# Altium schematic symbol library module.SchLib: 18 symbols
Pins are listed as number, name and electrical type; pins without a type are passive.

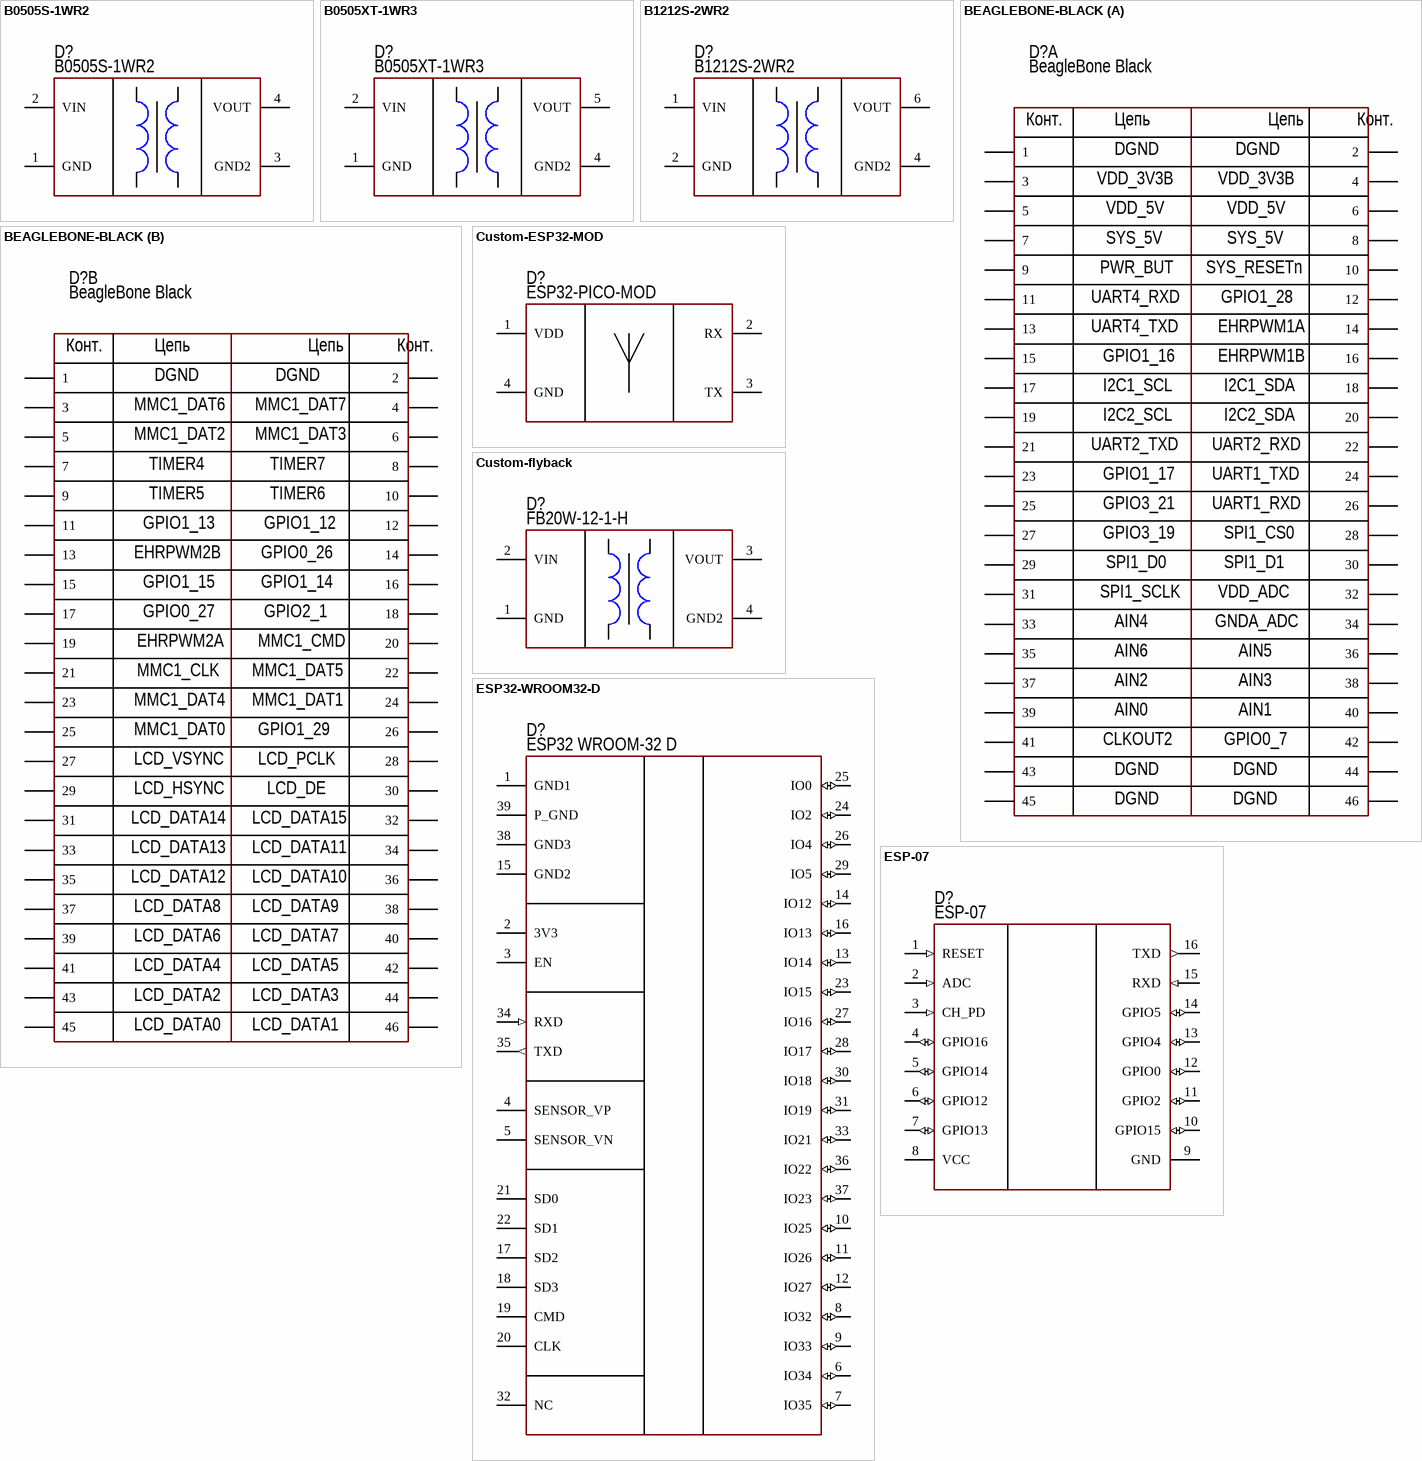
[diagram p0: symbols B0505S-1WR2 to ESP-07]

## B0505S-1WR2
designator D?  PartNumber: B0505S-1WR2
DC/DC converter; Manufacturer: Mornsun; ValueManufacturerPartNumber: DC/DC converter, isolator, 5V 200mA, -40...+105°C, SIP-4; OutputType: isolator; OutputVoltage: 5V 200mA; HelpURL: https://www.chipdip.ru/product/b0505s-1wr2; Package: SIP-4; ComponentType: DC/DC converter; Temperature: -40...+105°C
footprint MOD: SIP-4 (B0505S-1W)
pins: 1 GND (power), 2 VIN (power), 3 GND2 (power), 4 VOUT (power)

## B0505XT-1WR3
designator D?  PartNumber: B0505XT-1WR3
DC/DC converter; Manufacturer: Mornsun; ValueManufacturerPartNumber: DC/DC converter, isolator, 5V 200mA, -40...+105°C, SMD-8; OutputType: isolator; OutputVoltage: 5V 200mA; HelpURL: https://www.mornsun-power.com/html/products/35/0.25-3w-smd.html; Package: SMD-8; ComponentType: DC/DC converter; Temperature: -40...+105°C
footprint MOD: B0505XT-1WR3
pins: 1 GND (power), 2 VIN (power), 4 GND2 (power), 5 VOUT (power)

## B1212S-2WR2
designator D?  PartNumber: B1212S-2WR2
DC/DC converter; Manufacturer: Mornsun; ValueManufacturerPartNumber: DC/DC converter, isolator, 12V 167mA, -40...+105°C, SIP-7; OutputType: isolator; OutputVoltage: 12V 167mA; HelpURL: https://www.compel.ru/infosheet/MORNSUN/B1212S-2WR2; Package: SIP-7; ComponentType: DC/DC converter; Temperature: -40...+105°C
footprint MOD: SIP-7 (B1212S-2W)
pins: 1 VIN (power), 2 GND (power), 4 GND2 (power), 6 VOUT (power)

## BEAGLEBONE-BLACK
designator D?  PartNumber: BeagleBone Black
Single Board Computers; Manufacturer: BeagleBoard; ValueManufacturerPartNumber: Single Board Computers, ARM® Cortex®-A8, SD card, UART, USB, CAN, ADC, PWM, I2C, SPI, GPIO, eCAP, eQEP, -40...+90°C; Core: ARM® Cortex®-A8; TypeInterface: SD card, UART, USB, CAN, ADC, PWM, I2C, SPI, GPIO, eCAP, eQEP; HelpURL: https://www.digikey.com/en/products/detail/beagleboard-by-seeed-studio/102110420/12719590; ComponentType: Single Board Computers; Temperature: -40...+90°C
footprint BEAGLEBONE-BLACK-DIRECT-LP
footprint BEAGLEBONE-BLACK-INVERTED-LP
footprint BEAGLEBONE-BLACK-INVERTED-10mm
part A pins: 1-1 1, 1-2 2, 1-3 3, 1-4 4, 1-5 5, 1-6 6, 1-7 7, 1-8 8, 1-9 9, 1-10 10, 1-11 11, 1-12 12, 1-13 13, 1-14 14, 1-15 15, 1-16 16, 1-17 17, 1-18 18, 1-19 19, 1-20 20, 1-21 21, 1-22 22, 1-23 23, 1-24 24, 1-25 25, 1-26 26, 1-27 27, 1-28 28, 1-29 29, 1-30 30, 1-31 31, 1-32 32, 1-33 33, 1-34 34, 1-35 35, 1-36 36, 1-37 37, 1-38 38, 1-39 39, 1-40 40, 1-41 41, 1-42 42, 1-43 43, 1-44 44, 1-45 45, 1-46 46
part B pins: 2-1 1, 2-2 2, 2-3 3, 2-4 4, 2-5 5, 2-6 6, 2-7 7, 2-8 8, 2-9 9, 2-10 10, 2-11 11, 2-12 12, 2-13 13, 2-14 14, 2-15 15, 2-16 16, 2-17 17, 2-18 18, 2-19 19, 2-20 20, 2-21 21, 2-22 22, 2-23 23, 2-24 24, 2-25 25, 2-26 26, 2-27 27, 2-28 28, 2-29 29, 2-30 30, 2-31 31, 2-32 32, 2-33 33, 2-34 34, 2-35 35, 2-36 36, 2-37 37, 2-38 38, 2-39 39, 2-40 40, 2-41 41, 2-42 42, 2-43 43, 2-44 44, 2-45 45, 2-46 46
part A text: Конт.; Цепь; DGND; VDD_3V3B; VDD_5V; SYS_5V; PWR_BUT; SYS_RESETn; UART4_RXD; GPIO1_28; UART4_TXD; EHRPWM1A; GPIO1_16; EHRPWM1B; I2C1_SCL; I2C1_SDA; I2C2_SCL; I2C2_SDA; UART2_TXD; UART2_RXD; GPIO1_17; UART1_TXD; GPIO3_21; UART1_RXD; GPIO3_19; SPI1_CS0; SPI1_D0; SPI1_D1; SPI1_SCLK; VDD_ADC; AIN4; GNDA_ADC; AIN6; AIN5; AIN2; AIN3; AIN0; AIN1; CLKOUT2; GPIO0_7
part B text: Конт.; Цепь; DGND; MMC1_DAT6; MMC1_DAT7; MMC1_DAT2; MMC1_DAT3; TIMER4; TIMER7; TIMER5; TIMER6; GPIO1_13; GPIO1_12; EHRPWM2B; GPIO0_26; GPIO1_15; GPIO1_14; GPIO0_27; GPIO2_1; EHRPWM2A; MMC1_CMD; MMC1_CLK; MMC1_DAT5; MMC1_DAT4; MMC1_DAT1; MMC1_DAT0; GPIO1_29; LCD_VSYNC; LCD_PCLK; LCD_HSYNC; LCD_DE; LCD_DATA14; LCD_DATA15; LCD_DATA13; LCD_DATA11; LCD_DATA12; LCD_DATA10; LCD_DATA8; LCD_DATA9; LCD_DATA6; LCD_DATA7; LCD_DATA4; LCD_DATA5; LCD_DATA2; LCD_DATA3; LCD_DATA0; LCD_DATA1

## Custom-ESP32-MOD
designator D?  PartNumber: ESP32-PICO-MOD
Wi-Fi module; Manufacturer: Custom; ValueManufacturerPartNumber: Wi-Fi module, 2.4GHz, UART, -40...+105°C, SIP-4; Frequency: 2.4GHz; Interface: UART; HelpURL: https://www.chipdip.ru/product/b0505s-1wr2; Package: SIP-4; ComponentType: Wi-Fi module; Temperature: -40...+105°C
footprint CUSTOM: ESP32-PICO-MOD
pins: 1 VDD (power), 2 RX (power), 3 TX (power), 4 GND (power)

## Custom-flyback
designator D?  PartNumber: FB20W-12-1-H
DC/DC HV flyback; Manufacturer: Custom; ValueManufacturerPartNumber: DC/DC converter, isolator, 12V 1A, -40...+105°C, Custom; OutputType: isolator; OutputVoltage: 12V 1A; HelpURL: https://www.chipdip.ru/product/b0505s-1wr2; Package: Custom; ComponentType: DC/DC converter; Temperature: -40...+105°C
footprint CUSTOM: FB20W-12-1-H
pins: 1 GND (power), 2 VIN (power), 3 VOUT (power), 4 GND2 (power)

## ESP32-WROOM32-D
designator D?  PartNumber: ESP32 WROOM-32 D
Wi-Fi; Manufacturer: Espressif Systems; ValueManufacturerPartNumber: Wi-Fi module, WiFi 802.11 b/g/n (802.11n up to 150 Mbps) / Bluetooth v4.2 BR/EDR and BLE specification, 32 bit, SD card, UART, SPI, SDIO, I2C, LED PWM, Motor PWM, I2S, IR, pulse counter, GPIO, capacitive touch sensor, ADC, DAC, -40...+85°C, 18x25.5x3.1; Core: 32 bit; TypeInterface: SD card, UART, SPI, SDIO, I2C, LED PWM, Motor PWM, I2S, IR, pulse counter, GPIO, capacitive touch sensor, ADC, DAC; TypeStandart: WiFi 802.11 b/g/n (802.11n up to 150 Mbps) / Bluetooth v4.2 BR/EDR and BLE specification; HelpURL: https://www.espressif.com/sites/default/files/documentation/esp32-wroom-32d_esp32-wroom-32u_datasheet_en.pdf; Package: 18x25.5x3.1; ComponentType: Wi-Fi module; Temperature: -40...+85°C
footprint MOD: ESP32-WROOM32-D
pins: 1 GND1 (power), 2 3V3 (power), 3 EN, 4 SENSOR_VP, 5 SENSOR_VN, 6 IO34 (io), 7 IO35 (io), 8 IO32 (io), 9 IO33 (io), 10 IO25 (io), 11 IO26 (io), 12 IO27 (io), 13 IO14 (io), 14 IO12 (io), 15 GND2 (power), 16 IO13 (io), 17 SD2, 18 SD3, 19 CMD, 20 CLK, 21 SD0, 22 SD1, 23 IO15 (io), 24 IO2 (io), 25 IO0 (io), 26 IO4 (io), 27 IO16 (io), 28 IO17 (io), 29 IO5 (io), 30 IO18 (io), 31 IO19 (io), 32 NC, 33 IO21 (io), 34 RXD (in), 35 TXD (out), 36 IO22 (io), 37 IO23 (io), 38 GND3 (power), 39 P_GND (power)

## ESP-07
designator D?  PartNumber: ESP-07
Wi-Fi; Manufacturer: Espressif Systems; ValueManufacturerPartNumber: Wi-Fi module, 802.11 b/g/n, 8 bit, SDIO/SPI/UART, -40...+85°C, 21x16mm; Core: 8 bit; TypeInterface: SDIO/SPI/UART; TypeStandart: 802.11 b/g/n; HelpURL: https://www.chipdip.ru/product/esp-07; Package: 21x16mm; ComponentType: Wi-Fi module; Temperature: -40...+85°C
footprint MOD: ESP-07
pins: 1 RESET (in), 2 ADC (in), 3 CH_PD (in), 4 GPIO16 (io), 5 GPIO14 (io), 6 GPIO12 (io), 7 GPIO13 (io), 8 VCC (power), 9 GND (power), 10 GPIO15 (io), 11 GPIO2 (io), 12 GPIO0 (io), 13 GPIO4 (io), 14 GPIO5 (io), 15 RXD (in), 16 TXD (out)

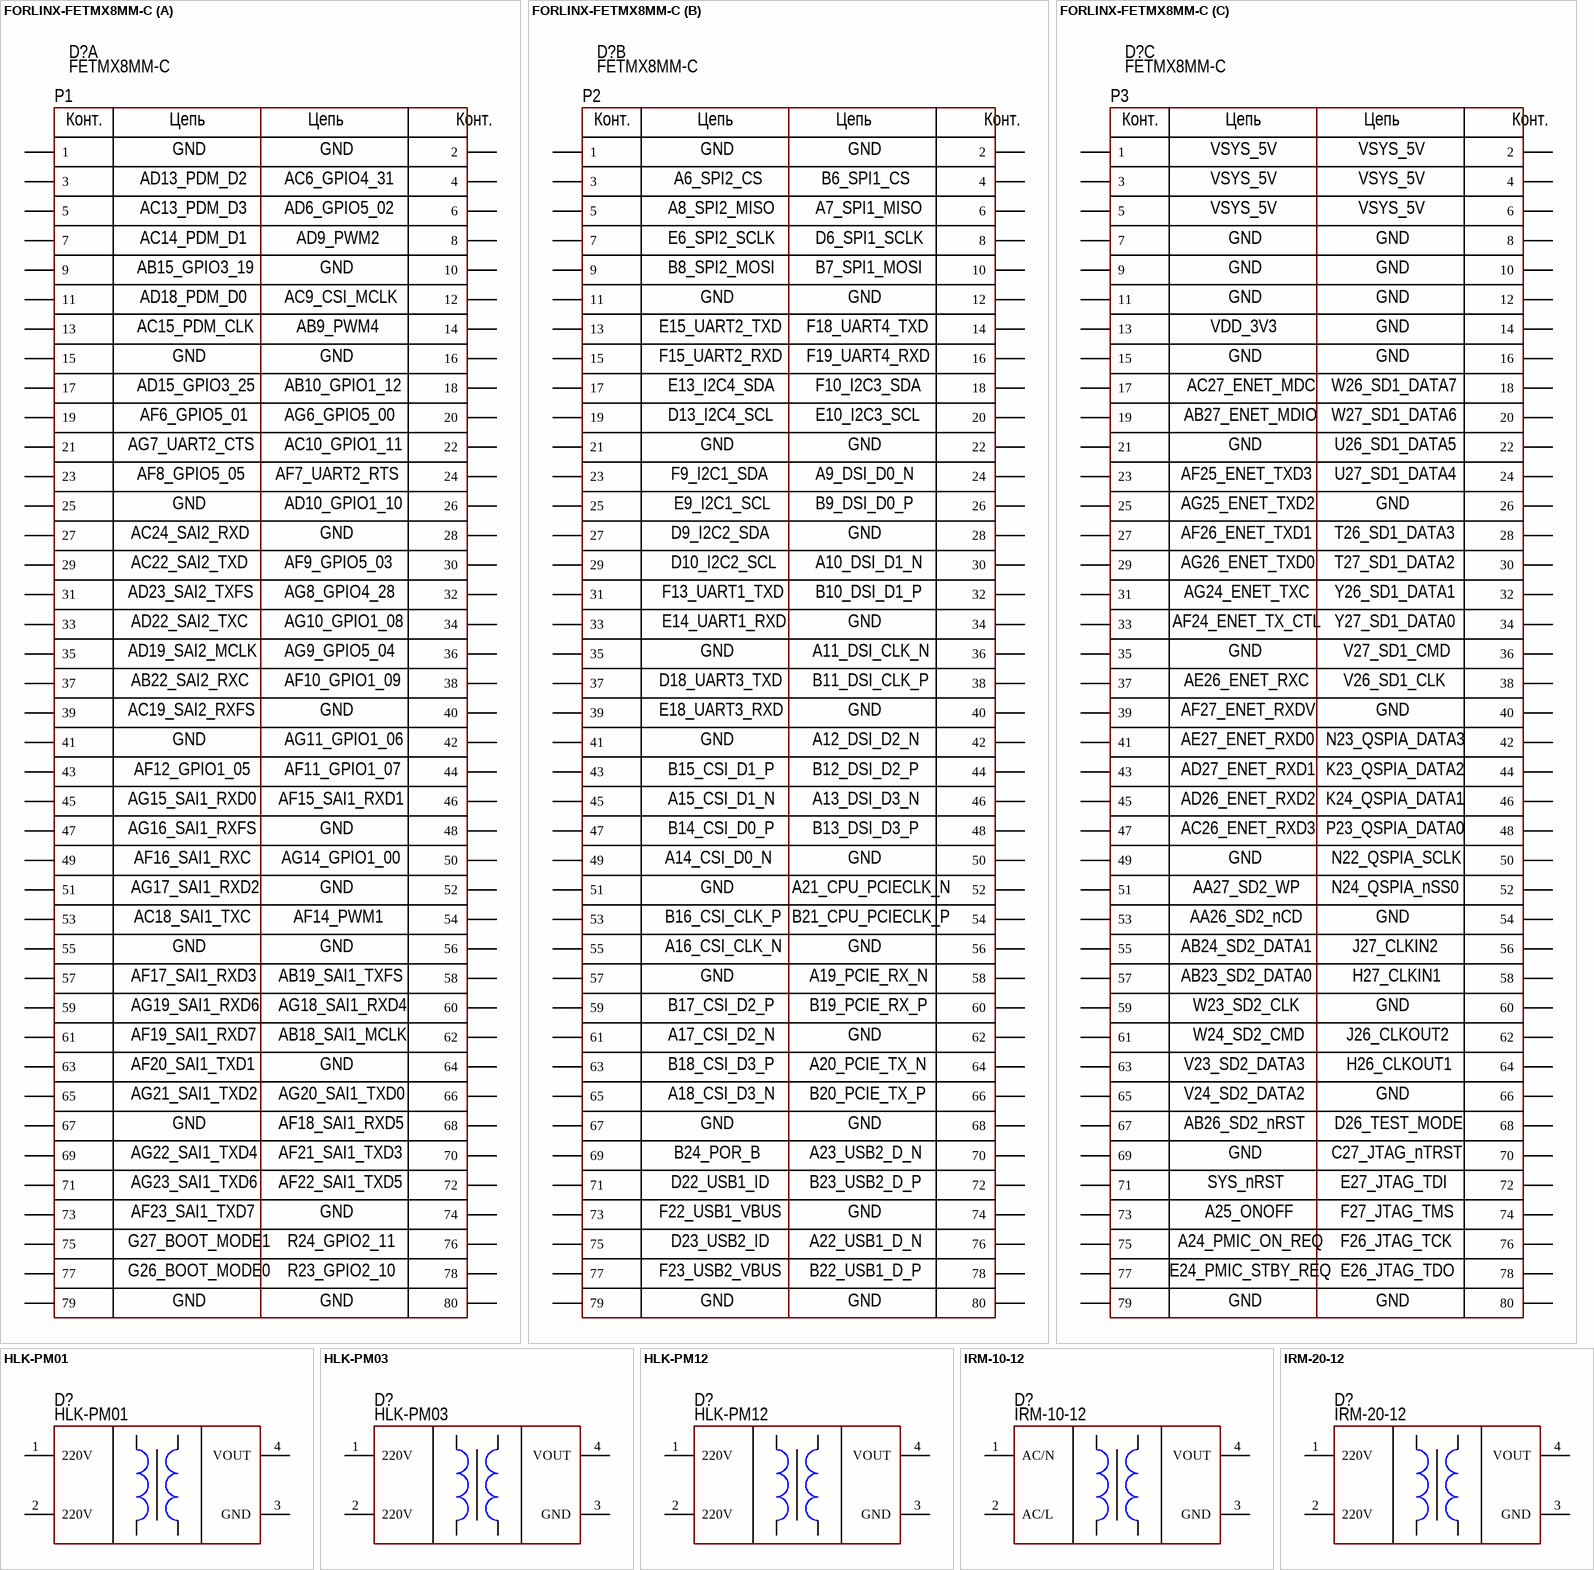
[diagram p1: symbols FORLINX-FETMX8MM-C to IRM-20-12]

## FORLINX-FETMX8MM-C
designator D?  PartNumber: FETMX8MM-C
System On Module; Manufacturer: Forlinx; ValueManufacturerPartNumber: System On Module, ARM® Cortex®-4*Cortex-A53+M4, MIPI-CSI, MIPI-DSI, USB, PCIe, UART, eCSPI, IIC. GE, I2S, AC97, TDM, PDM, SPDIF, 0...+70°C; Core: ARM® Cortex®-4*Cortex-A53+M4; TypeInterface: MIPI-CSI, MIPI-DSI, USB, PCIe, UART, eCSPI, IIC. GE, I2S, AC97, TDM, PDM, SPDIF; HelpURL: https://www.forlinx.net/index.php?m=product&f=view&productID=28; ComponentType: System On Module; Temperature: 0...+70°C
footprint FORLINX-FETMX8MM-C
part A pins: 1-1 1, 1-2 2, 1-3 3, 1-4 4, 1-5 5, 1-6 6, 1-7 7, 1-8 8, 1-9 9, 1-10 10, 1-11 11, 1-12 12, 1-13 13, 1-14 14, 1-15 15, 1-16 16, 1-17 17, 1-18 18, 1-19 19, 1-20 20, 1-21 21, 1-22 22, 1-23 23, 1-24 24, 1-25 25, 1-26 26, 1-27 27, 1-28 28, 1-29 29, 1-30 30, 1-31 31, 1-32 32, 1-33 33, 1-34 34, 1-35 35, 1-36 36, 1-37 37, 1-38 38, 1-39 39, 1-40 40, 1-41 41, 1-42 42, 1-43 43, 1-44 44, 1-45 45, 1-46 46, 1-47 47, 1-48 48, 1-49 49, 1-50 50, 1-51 51, 1-52 52, 1-53 53, 1-54 54, 1-55 55, 1-56 56, 1-57 57, 1-58 58, 1-59 59, 1-60 60, 1-61 61, 1-62 62, 1-63 63, 1-64 64, 1-65 65, 1-66 66, 1-67 67, 1-68 68, 1-69 69, 1-70 70, 1-71 71, 1-72 72, 1-73 73, 1-74 74, 1-75 75, 1-76 76, 1-77 77, 1-78 78, 1-79 79, 1-80 80
part B pins: 2-1 1, 2-2 2, 2-3 3, 2-4 4, 2-5 5, 2-6 6, 2-7 7, 2-8 8, 2-9 9, 2-10 10, 2-11 11, 2-12 12, 2-13 13, 2-14 14, 2-15 15, 2-16 16, 2-17 17, 2-18 18, 2-19 19, 2-20 20, 2-21 21, 2-22 22, 2-23 23, 2-24 24, 2-25 25, 2-26 26, 2-27 27, 2-28 28, 2-29 29, 2-30 30, 2-31 31, 2-32 32, 2-33 33, 2-34 34, 2-35 35, 2-36 36, 2-37 37, 2-38 38, 2-39 39, 2-40 40, 2-41 41, 2-42 42, 2-43 43, 2-44 44, 2-45 45, 2-46 46, 2-47 47, 2-48 48, 2-49 49, 2-50 50, 2-51 51, 2-52 52, 2-53 53, 2-54 54, 2-55 55, 2-56 56, 2-57 57, 2-58 58, 2-59 59, 2-60 60, 2-61 61, 2-62 62, 2-63 63, 2-64 64, 2-65 65, 2-66 66, 2-67 67, 2-68 68, 2-69 69, 2-70 70, 2-71 71, 2-72 72, 2-73 73, 2-74 74, 2-75 75, 2-76 76, 2-77 77, 2-78 78, 2-79 79, 2-80 80
part C pins: 3-1 1, 3-2 2, 3-3 3, 3-4 4, 3-5 5, 3-6 6, 3-7 7, 3-8 8, 3-9 9, 3-10 10, 3-11 11, 3-12 12, 3-13 13, 3-14 14, 3-15 15, 3-16 16, 3-17 17, 3-18 18, 3-19 19, 3-20 20, 3-21 21, 3-22 22, 3-23 23, 3-24 24, 3-25 25, 3-26 26, 3-27 27, 3-28 28, 3-29 29, 3-30 30, 3-31 31, 3-32 32, 3-33 33, 3-34 34, 3-35 35, 3-36 36, 3-37 37, 3-38 38, 3-39 39, 3-40 40, 3-41 41, 3-42 42, 3-43 43, 3-44 44, 3-45 45, 3-46 46, 3-47 47, 3-48 48, 3-49 49, 3-50 50, 3-51 51, 3-52 52, 3-53 53, 3-54 54, 3-55 55, 3-56 56, 3-57 57, 3-58 58, 3-59 59, 3-60 60, 3-61 61, 3-62 62, 3-63 63, 3-64 64, 3-65 65, 3-66 66, 3-67 67, 3-68 68, 3-69 69, 3-70 70, 3-71 71, 3-72 72, 3-73 73, 3-74 74, 3-75 75, 3-76 76, 3-77 77, 3-78 78, 3-79 79, 3-80 80
part A text: P1; Конт.; Цепь; GND; AD13_PDM_D2; AC6_GPIO4_31; AC13_PDM_D3; AD6_GPIO5_02; AC14_PDM_D1; AD9_PWM2; AB15_GPIO3_19; AD18_PDM_D0; AC9_CSI_MCLK; AC15_PDM_CLK; AB9_PWM4; AD15_GPIO3_25; AB10_GPIO1_12; AF6_GPIO5_01; AG6_GPIO5_00; AG7_UART2_CTS; AC10_GPIO1_11; AF8_GPIO5_05; AF7_UART2_RTS; AD10_GPIO1_10; AC24_SAI2_RXD; AC22_SAI2_TXD; AF9_GPIO5_03; AD23_SAI2_TXFS; AG8_GPIO4_28; AD22_SAI2_TXC; AG10_GPIO1_08; AD19_SAI2_MCLK; AG9_GPIO5_04; AB22_SAI2_RXC; AF10_GPIO1_09; AC19_SAI2_RXFS; AG11_GPIO1_06; AF12_GPIO1_05; AF11_GPIO1_07; AG15_SAI1_RXD0; AF15_SAI1_RXD1; AG16_SAI1_RXFS; AF16_SAI1_RXC; AG14_GPIO1_00; AG17_SAI1_RXD2; AC18_SAI1_TXC; AF14_PWM1; AF17_SAI1_RXD3; AB19_SAI1_TXFS; AG19_SAI1_RXD6; AG18_SAI1_RXD4; AF19_SAI1_RXD7; AB18_SAI1_MCLK; AF20_SAI1_TXD1; AG21_SAI1_TXD2; AG20_SAI1_TXD0; AF18_SAI1_RXD5; AG22_SAI1_TXD4; AF21_SAI1_TXD3; AG23_SAI1_TXD6; AF22_SAI1_TXD5; AF23_SAI1_TXD7; G27_BOOT_MODE1; R24_GPIO2_11; G26_BOOT_MODE0; R23_GPIO2_10
part B text: P2; Конт.; Цепь; GND; A6_SPI2_CS; B6_SPI1_CS; A8_SPI2_MISO; A7_SPI1_MISO; E6_SPI2_SCLK; D6_SPI1_SCLK; B8_SPI2_MOSI; B7_SPI1_MOSI; E15_UART2_TXD; F18_UART4_TXD; F15_UART2_RXD; F19_UART4_RXD; E13_I2C4_SDA; F10_I2C3_SDA; D13_I2C4_SCL; E10_I2C3_SCL; F9_I2C1_SDA; A9_DSI_D0_N; E9_I2C1_SCL; B9_DSI_D0_P; D9_I2C2_SDA; D10_I2C2_SCL; A10_DSI_D1_N; F13_UART1_TXD; B10_DSI_D1_P; E14_UART1_RXD; A11_DSI_CLK_N; D18_UART3_TXD; B11_DSI_CLK_P; E18_UART3_RXD; A12_DSI_D2_N; B15_CSI_D1_P; B12_DSI_D2_P; A15_CSI_D1_N; A13_DSI_D3_N; B14_CSI_D0_P; B13_DSI_D3_P; A14_CSI_D0_N; A21_CPU_PCIECLK_N; B16_CSI_CLK_P; B21_CPU_PCIECLK_P; A16_CSI_CLK_N; A19_PCIE_RX_N; B17_CSI_D2_P; B19_PCIE_RX_P; A17_CSI_D2_N; B18_CSI_D3_P; A20_PCIE_TX_N; A18_CSI_D3_N; B20_PCIE_TX_P; B24_POR_B; A23_USB2_D_N; D22_USB1_ID; B23_USB2_D_P; F22_USB1_VBUS; D23_USB2_ID; A22_USB1_D_N; F23_USB2_VBUS; B22_USB1_D_P
part C text: P3; Конт.; Цепь; VSYS_5V; GND; VDD_3V3; AC27_ENET_MDC; W26_SD1_DATA7; AB27_ENET_MDIO; W27_SD1_DATA6; U26_SD1_DATA5; AF25_ENET_TXD3; U27_SD1_DATA4; AG25_ENET_TXD2; AF26_ENET_TXD1; T26_SD1_DATA3; AG26_ENET_TXD0; T27_SD1_DATA2; AG24_ENET_TXC; Y26_SD1_DATA1; AF24_ENET_TX_CTL; Y27_SD1_DATA0; V27_SD1_CMD; AE26_ENET_RXC; V26_SD1_CLK; AF27_ENET_RXDV; AE27_ENET_RXD0; N23_QSPIA_DATA3; AD27_ENET_RXD1; K23_QSPIA_DATA2; AD26_ENET_RXD2; K24_QSPIA_DATA1; AC26_ENET_RXD3; P23_QSPIA_DATA0; N22_QSPIA_SCLK; AA27_SD2_WP; N24_QSPIA_nSS0; AA26_SD2_nCD; AB24_SD2_DATA1; J27_CLKIN2; AB23_SD2_DATA0; H27_CLKIN1; W23_SD2_CLK; W24_SD2_CMD; J26_CLKOUT2; V23_SD2_DATA3; H26_CLKOUT1; V24_SD2_DATA2; AB26_SD2_nRST; D26_TEST_MODE; C27_JTAG_nTRST; SYS_nRST; E27_JTAG_TDI; A25_ONOFF; F27_JTAG_TMS; A24_PMIC_ON_REQ; F26_JTAG_TCK; E24_PMIC_STBY_REQ; E26_JTAG_TDO

## HLK-PM01
designator D?  PartNumber: HLK-PM01
AC/DC converter; Manufacturer: Mornsun; ValueManufacturerPartNumber: AC/DC converter, isolator, 5V 600mA, 100...240VAC, -40...+105°C, 30x20x15mm; OutputType: isolator; OutputVoltage: 5V 600mA; InputVoltage: 100...240VAC; HelpURL: https://ru.aliexpress.com/item/32408565688.html; Package: 30x20x15mm; ComponentType: AC/DC converter; Temperature: -40...+105°C
footprint MOD: HLK-PM01
pins: 1 220V (power), 2 220V (power), 3 GND (power), 4 VOUT (power)

## HLK-PM03
designator D?  PartNumber: HLK-PM03
AC/DC converter; Manufacturer: Mornsun; ValueManufacturerPartNumber: AC/DC converter, isolator, 3V 900mA, 100...240VAC, -40...+105°C, 30x20x15mm; OutputType: isolator; OutputVoltage: 3V 900mA; InputVoltage: 100...240VAC; HelpURL: https://ru.aliexpress.com/item/32408565688.html; Package: 30x20x15mm; ComponentType: AC/DC converter; Temperature: -40...+105°C
footprint MOD: HLK-PM01
pins: 1 220V (power), 2 220V (power), 3 GND (power), 4 VOUT (power)

## HLK-PM12
designator D?  PartNumber: HLK-PM12
AC/DC converter; Manufacturer: Mornsun; ValueManufacturerPartNumber: AC/DC converter, isolator, 12V 250mA, 100...240VAC, -40...+105°C, 30x20x15mm; OutputType: isolator; OutputVoltage: 12V 250mA; InputVoltage: 100...240VAC; HelpURL: https://ru.aliexpress.com/item/32408565688.html; Package: 30x20x15mm; ComponentType: AC/DC converter; Temperature: -40...+105°C
footprint MOD: HLK-PM01
pins: 1 220V (power), 2 220V (power), 3 GND (power), 4 VOUT (power)

## IRM-10-12
designator D?  PartNumber: IRM-10-12
AC/DC converter; Manufacturer: MEAN WELL; ValueManufacturerPartNumber: AC/DC converter, isolator, 12V 850mA, 85...265VAC, -30...+70°C, 4-DIP; OutputType: isolator; OutputVoltage: 12V 850mA; InputVoltage: 85...265VAC; HelpURL: https://www.digikey.com/products/en?keywords=IRM-10-12; Package: 4-DIP; ComponentType: AC/DC converter; Temperature: -30...+70°C
footprint MOD: IRM-10-12
pins: 1 AC/N (power), 2 AC/L (power), 3 GND (power), 4 VOUT (power)

## IRM-20-12
designator D?  PartNumber: IRM-20-12
AC/DC converter; Manufacturer: MEAN WELL; ValueManufacturerPartNumber: AC/DC converter, isolator, 12V 1.8A, 85...265VAC, -30...+70°C, 4-DIP; OutputType: isolator; OutputVoltage: 12V 1.8A; InputVoltage: 85...265VAC; HelpURL: https://www.digikey.com/products/en?keywords=IRM-20-12; Package: 4-DIP; ComponentType: AC/DC converter; Temperature: -30...+70°C
footprint MOD: IRM-20-12
pins: 1 220V (power), 2 220V (power), 3 GND (power), 4 VOUT (power)

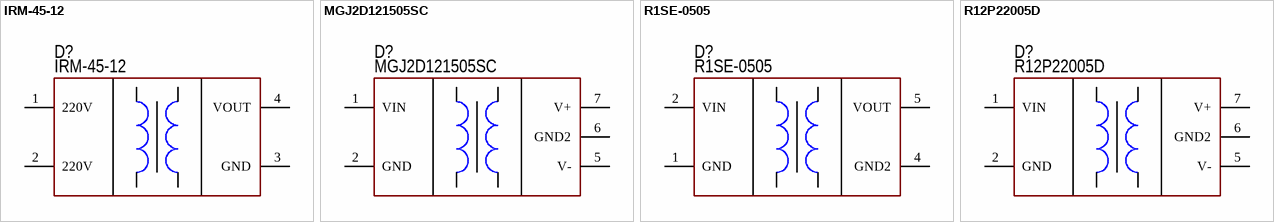
[diagram p2: symbols IRM-45-12 to R12P22005D]

## IRM-45-12
designator D?  PartNumber: IRM-45-12
AC/DC converter; Manufacturer: MEAN WELL; ValueManufacturerPartNumber: AC/DC converter, isolator, 12V 3.8A, 85...265VAC, -30...+70°C, 4-DIP; OutputType: isolator; OutputVoltage: 12V 3.8A; InputVoltage: 85...265VAC; HelpURL: https://www.digikey.com/product-detail/en/mean-well-usa-inc/IRM-45-12/1866-3053-ND/7704678; Package: 4-DIP; ComponentType: AC/DC converter; Temperature: -30...+70°C
footprint MOD: IRM-45-12
pins: 1 220V (power), 2 220V (power), 3 GND (power), 4 VOUT (power)

## MGJ2D121505SC
designator D?  PartNumber: MGJ2D121505SC
DC/DC converter; Manufacturer: Murata; ValueManufacturerPartNumber: DC/DC converter, isolator 5200V, +15/-5V 2W, -40...+100°C, SIP-7; OutputType: isolator 5200V; OutputVoltage: +15/-5V 2W; HelpURL: https://www.digikey.com/product-detail/en/murata-power-solutions-inc/MGJ2D121505SC/811-3001-5-ND/4840068; Package: SIP-7; ComponentType: DC/DC converter; Temperature: -40...+100°C
footprint MOD: MGJ2D121505SC (SIP-7)
pins: 1 VIN (power), 2 GND (power), 5 V- (power), 6 GND2 (power), 7 V+ (power)

## R1SE-0505
designator D?  PartNumber: R1SE-0505
DC/DC converter; Manufacturer: Recom Power; ValueManufacturerPartNumber: DC/DC converter, isolator, 5V 200mA, -40...+85°C, 8-SMD; OutputType: isolator; OutputVoltage: 5V 200mA; HelpURL: https://www.digikey.com/product-detail/en/recom-power/R1SE-0505/945-3306-ND/4503711; Package: 8-SMD; ComponentType: DC/DC converter; Temperature: -40...+85°C
footprint MOD: R1SE
pins: 1 GND (power), 2 VIN (power), 4 GND2 (power), 5 VOUT (power)

## R12P22005D
designator D?  PartNumber: R12P22005D
DC/DC converter; Manufacturer: Recom Power; ValueManufacturerPartNumber: DC/DC converter, isolator, +20/-5V 2W, -40...+105°C, SIP-7; OutputType: isolator; OutputVoltage: +20/-5V 2W; HelpURL: https://www.digikey.com/product-detail/en/recom-power/R12P22005D/945-3056-ND/5881287; Package: SIP-7; ComponentType: DC/DC converter; Temperature: -40...+105°C
footprint MOD: R12P22005D
pins: 1 VIN (power), 2 GND (power), 5 V- (power), 6 GND2 (power), 7 V+ (power)